# Altium integrated library PAM2401.IntLib: 1 symbol
Pins are listed as number, name and electrical type; pins without a type are passive.

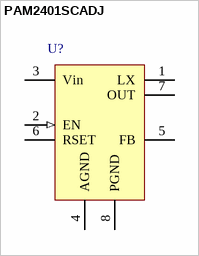
[diagram p0: symbol PAM2401SCADJ]

## PAM2401SCADJ
designator U?, comment Boost Converter  (value not drawn)
1.0MHz STEP-UP DC-DC CONVERTER. / MSOP-8EP DC-DC Converters ROHS /; MPN: PAM2401SCADJ; Supplier 1: Digi-Key; Supplier Part Number 1: PAM2401SCADJDICT-ND; Supplier 2: LCSC; Supplier Part Number 2: C508238; LCSC Part Number: C508238; ComponentLink1Description: Datasheet; ComponentLink1URL: *https://www.diodes.com/assets/Datasheets/PAM2401.pdf
footprint SOP65P490X110-8N
pins: 1 LX "Switch Pin", 2 EN (in) "Enables Control Input", 3 Vin (power) "Input Voltage Pin", 4 AGND (power) "Analog Ground", 5 FB "Feedback Pin Internally Set to 0.6V", 6 RSET "Current Limit Setting", 7 OUT (power) "Output Pin", 8 PGND (power) "Power Ground"